# Altium footprint library Switch.PcbLib: 27 footprints (part 2 of 2)
Each footprint in its own frame and in the unit in brackets; x right, y up, seen from the top. Pads: shape width x height; smd on the part's side, far side on the other; paste and mask are expansions set on the pad; w line width, h text height; cw(c..) or ccw(c..) is an arc to the next point about the centre after c.
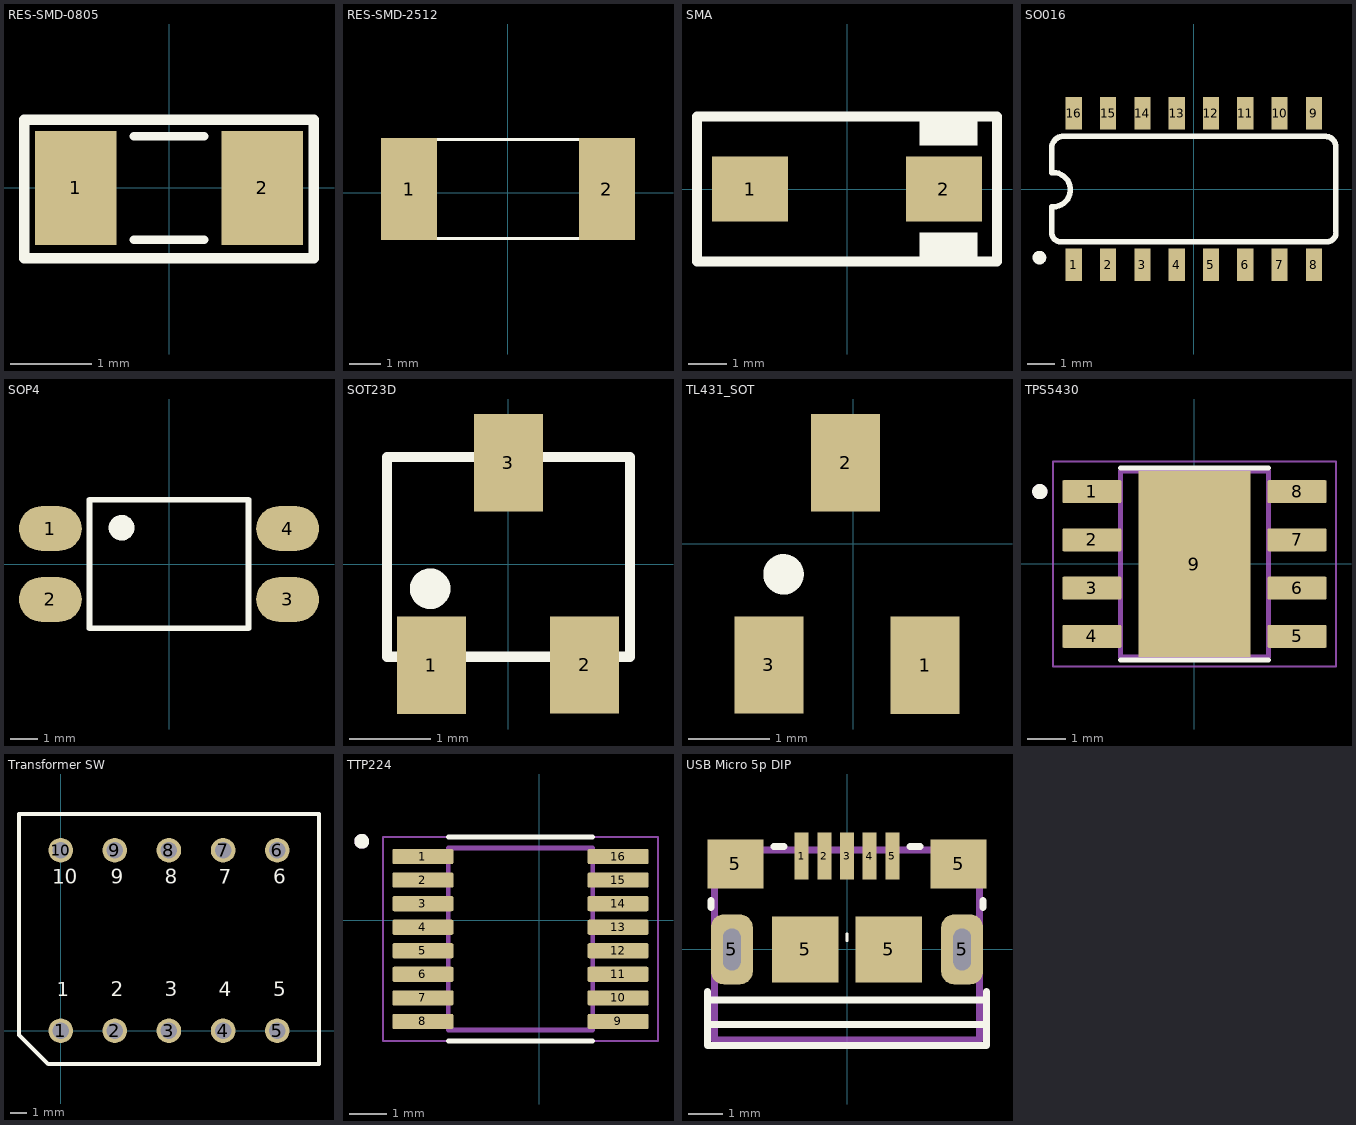
[diagram p1: the footprints below, top view; thin cyan lines are the x and y axes]

## RES-SMD-0805 [mil]
height 354.33
pads (2):
  rect 39.37x55 smd: 1(-45,0) 2(45,0)
Top Overlay:
  lines w4: -17,-25 17,-25 ; -17,25 17,25
  lines w5: -70,-34 70,-34 70,33 -70,33 -70,-34
3D body "SW3dPS-0805 SMD Resistor.STEP": height 31.39, standoff 0.6, extent -39.36,-24.6 39.38,24.61

## RES-SMD-2512 [mm] "Chip Capacitor, Body 3.2x2.5mm, IPC Medium Density"
height 1.35
pads (2):
  rect 1.8x3.3 smd: 1(-3.2,0.127) 2(3.2,0.127)
Top Overlay:
  lines w0.1: -3.2,-1.473 -3.2,1.727 3.2,1.727 3.2,-1.473 -3.2,-1.473
3D body "User Library-SMD RESISTOR-1 (9).step": height 0.6, standoff 0, extent -3.2,-1.473 3.2,1.727

## SMA [mm]
height 9
pads (2):
  rect 2x1.7 smd: 1(-2.544,0) 2(2.544,0)
Top Overlay:
  region: 3.429,1.905 1.905,1.905 1.905,1.145 3.429,1.145
  rectangle: 1.905,-1.905 3.429,-1.145
  lines w0.254: -3.937,-1.903 -3.937,1.903 3.937,1.903 3.937,-1.903 -3.937,-1.903
3D body: height 2.29, standoff 0.2, extent -2.64,-1.395 2.642,1.395
3D body: height 0.2, standoff 0, extent -2.87,-0.864 -2.032,0.864
3D body: height 1.14, standoff 0, extent -2.87,-0.864 -2.718,0.864
3D body: height 1.14, standoff 0.94, extent -2.87,-0.864 -2.489,0.864
3D body: height 2.29, standoff 0.2, extent -2.642,-0.864 -2.032,0.864
3D body: height 2.29, standoff 0.2, extent 2.032,-0.864 2.642,0.864
3D body: height 1.14, standoff 0.94, extent 2.489,-0.864 2.87,0.864
3D body: height 1.14, standoff 0, extent 2.718,-0.864 2.87,0.864
3D body: height 0.2, standoff 0, extent 2.032,-0.864 2.87,0.864

## SO016 [mm]
height 9
pads (16):
  rect 0.6x1.2 smd: 1(-4.445,-2.8) 2(-3.175,-2.8) 3(-1.905,-2.8) 4(-0.635,-2.8) 5(0.635,-2.8) 6(1.905,-2.8) 7(3.175,-2.8) 8(4.445,-2.8) 9(4.445,2.8) 10(3.175,2.8) 11(1.905,2.8) 12(0.635,2.8) 13(-0.635,2.8) 14(-1.905,2.8) 15(-3.175,2.8) 16(-4.445,2.8)
Top Overlay:
  circle w0.254: c-5.715,-2.54 r0.127
  lines w0.203: -5.257,-1.668 ccw(c-4.927,-1.615) -4.874,-1.946 ; -5.258,-1.665 -5.258,-0.66 ; -5.258,0.61 -5.258,1.453 ; -5.257,1.463 cw(c-4.827,1.515) -4.88,1.946 ; -5.207,-0.66 ccw(c-5.207,-0.025) -5.207,0.61 ; -4.877,-1.946 4.977,-1.946 ; -4.877,1.946 4.877,1.946 cw(c4.877,1.565) 5.258,1.565 5.258,-1.565 ; 4.979,-1.946 ccw(c4.927,-1.615) 5.257,-1.563
Mechanical 13:
  region: 4.699,2.286 4.191,2.286 4.191,3.302 4.699,3.302
  region: 3.429,2.286 2.921,2.286 2.921,3.302 3.429,3.302
  region: 2.159,2.286 1.651,2.286 1.651,3.302 2.159,3.302
  region: 0.889,2.286 0.381,2.286 0.381,3.302 0.889,3.302
  region: -0.381,2.286 -0.889,2.286 -0.889,3.302 -0.381,3.302
  region: -1.651,2.286 -2.159,2.286 -2.159,3.302 -1.651,3.302
  region: -2.921,2.286 -3.429,2.286 -3.429,3.302 -2.921,3.302
  region: -4.191,2.286 -4.699,2.286 -4.699,3.365 -4.191,3.365
  region: 4.699,-3.302 4.191,-3.302 4.191,-2.273 4.699,-2.273
  region: 3.429,-3.302 2.921,-3.302 2.921,-2.273 3.429,-2.273
  region: 2.159,-3.302 1.651,-3.302 1.651,-2.273 2.159,-2.273
  region: 0.889,-3.302 0.381,-3.302 0.381,-2.273 0.889,-2.273
  region: -0.381,-3.302 -0.889,-3.302 -0.889,-2.273 -0.381,-2.273
  region: -1.651,-3.302 -2.159,-3.302 -2.159,-2.273 -1.651,-2.273
  region: -2.921,-3.302 -3.429,-3.302 -3.429,-2.273 -2.921,-2.273
  region: -4.191,-3.302 -4.699,-3.302 -4.699,-2.273 -4.191,-2.273
3D body "User Library-CH340C.STEP": height 1.58, standoff 0, extent -4.991,-3.135 4.991,3.1

## SOP4 [mm]
height 9
pads (4):
  oval 2.25x1.6 smd: 1(-4.25,1.27) 2(-4.25,-1.27) 3(4.25,-1.27) 4(4.25,1.27)
Top Overlay:
  circle w0.2: c-1.7,1.3 r0.361
  region: -1.4,1.003 -2.006,1.003 -2.006,1.6 -1.4,1.6
  lines w0.2: -2.85,-2.3 -2.85,2.3 2.85,2.3 2.85,-2.3 -2.85,-2.3
3D body "pc817x1nip1b.stp": height 3.6, standoff 0, extent -4.673,-2.286 4.927,2.314

## SOT23D [mm] "SOT 23C - 1-3-2 - BCE"
height 9
pads (3):
  rect 0.85x1.2 smd: 1(-0.95,-1.25) 2(0.94,-1.245) 3(0,1.25)
Top Overlay:
  circle w0.25: c-0.965,-0.305 r0.125
  lines w0.127: -1.499,-1.143 -1.499,1.321 1.499,1.321 1.499,-1.143 -1.499,-1.143
3D body "SW3DPS-SOT-23-DEFAULT.STEP": height 1.06, standoff -0.04, extent -1.5,-1.174 1.5,1.326

## TL431_SOT [mm]
height 9
pads (3):
  rect 0.85x1.2 smd: 1(0.885,-1.5) 2(-0.095,1) 3(-1.04,-1.495)
Top Overlay:
  circle w0.25: c-0.86,-0.377 r0.125
3D body "SW3DPS-SOT-23-DEFAULT.STEP": height 1.06, standoff -0.04, extent -1.575,-1.576 1.425,0.924

## TPS5430 [mm]
height 9
pads (9):
  rrect10% 1.55x0.6 smd mask+0: 1(-2.692,1.897) 2(-2.692,0.627) 3(-2.692,-0.643) 4(-2.692,-1.913) 5(2.708,-1.913) 6(2.708,-0.643) 7(2.708,0.627) 8(2.708,1.897)
  rect 2.95x4.9 smd paste-3 mask+0: 9(0.008,-0.008)
Top Overlay:
  circle w0.2: c-4.062,1.897 r0.1
  lines w0.127: -1.942,-2.533 1.958,-2.533 ; -1.942,2.517 1.958,2.517
Top Paste:
  region: 1.308,-1.558 -1.292,-1.558 -1.292,1.542 1.308,1.542
Top Solder:
  drawing of 9 lines, arcs and shapes, not listed
Mechanical 13:
  circle w0.2: c-4.062,1.897 r0.1
  lines w0.127: -1.942,-2.458 -1.942,2.442 1.958,2.442 1.958,-2.458 -1.942,-2.458
Mechanical 15:
  lines w0.05: -3.717,-2.708 -3.717,2.692 3.733,2.692 3.733,-2.708 -3.717,-2.708
3D body "TPS5430DDAR.STEP": height 1.7, standoff 0, extent -3,-2.45 3,2.45

## Transformer SW [mm] "Transformer; 4 Leads"
height 9
pads (10):
  round 1.5 hole 1: 1(0,0) 2(3.3,0) 3(6.6,0) 4(9.9,0) 5(13.2,0) 6(13.2,11) 7(9.9,11) 8(6.6,11) 9(3.3,11) 10(0,11)
Top Overlay:
  lines w0.254: -2.54,-0.254 -2.54,13.208 15.748,13.208 15.748,-2.032 0,-2.032 -0.762,-2.032 -2.54,-0.254
  text "10" at -0.508,8.636 h1.52
  text "9" at 3.048,8.636 h1.52
  text "8" at 6.35,8.636 h1.52
  text "7" at 9.652,8.636 h1.52
  text "6" at 12.954,8.636 h1.52
  text "5" at 12.954,1.778 h1.52
  text "4" at 9.652,1.778 h1.52
  text "3" at 6.35,1.778 h1.52
  text "2" at 3.048,1.778 h1.52
  text "1" at -0.254,1.778 h1.5

## TTP224 [mm]
height 9
pads (16):
  rrect25% 1.65x0.41 smd: 1(-3.129,1.71) 2(-3.129,1.075) 3(-3.129,0.44) 4(-3.129,-0.195) 5(-3.129,-0.83) 6(-3.129,-1.465) 7(-3.129,-2.1) 8(-3.129,-2.735) 9(2.131,-2.735) 10(2.131,-2.1) 11(2.131,-1.465) 12(2.131,-0.83) 13(2.131,-0.195) 14(2.131,0.44) 15(2.131,1.075) 16(2.131,1.71)
Top Overlay:
  circle w0.2: c-4.779,2.12 r0.1
  lines w0.127: -2.447,-3.26 1.448,-3.26 ; -2.447,2.235 1.448,2.235
Mechanical 13:
  circle w0.2: c-4.779,2.12 r0.1
  lines w0.127: -2.447,-2.965 1.448,-2.965 1.448,1.94 -2.447,1.94 -2.447,-2.965
Mechanical 15:
  lines w0.05: -4.204,-3.262 3.206,-3.262 3.206,2.238 -4.204,2.238 -4.204,-3.262
3D body "step_temp.STEP": height 1.75, standoff 0, extent -3.496,-2.963 2.498,1.939

## USB Micro 5p DIP [mm]
height 9
pads (11):
  rect 0.4x1.35 smd mask+0.05: 1(-1.3,2.675) 2(-0.65,2.675) 3(0,2.675) 4(0.65,2.675) 5(1.3,2.675)
  rrect60% 1.2x2 hole 0.5 slot 1.2 at 90 deg: 5(-3.3,0) 5(3.3,0)
  rect 1.6x1.4 smd: 5(-3.2,2.45) 5(3.2,2.45)
  rect 1.9x1.9 smd paste-10: 5(-1.2,0) 5(1.2,0)
Top Overlay:
  lines w0.08: 0,0.25 0,0.45
  lines w0.2: -4,-2.15 4,-2.15 ; -4,-1.45 4,-1.45 ; -4,-1.2 -4,-2.75 4,-2.75 4,-1.2 ; -3.9,1.2 -3.9,1.4 ; -2.1,2.95 -1.8,2.95 ; 1.8,2.95 2.1,2.95 ; 3.9,1.2 3.9,1.4
Mechanical 16:
  lines w0.2: -3.8,-2.6 3.8,-2.6 3.8,2.85 -3.8,2.85 -3.8,-2.6
Mechanical 29:
  text ".Designator" at 0.6,-1.2 h1.52
3D body "10118193.step": height 2.85, standoff -0.75, extent -3.929,-2.76 3.928,2.9